# EAGLE library part SDCARD (library akita)
HIROSE microSD socket DM3AT-SF-PEJ
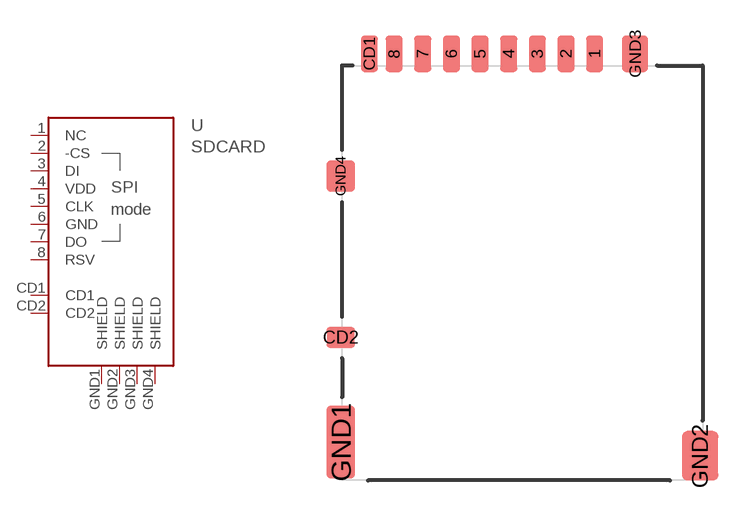
[diagram p21: symbol with the pads of SD_DM3AT-SF-PEJ; footprint SD_DM3AT-SF-PEJ]

Designator prefix U

## SDCARD  [SD_DM3AT-SF-PEJ]
1  NC
2  -CS
3  DI
4  VDD
5  CLK
6  GND
7  DO
8  RSV
CD1  CD1
CD2  CD2
GND1  SHIELD
GND2  SHIELD
GND3  SHIELD
GND4  SHIELD

## Footprint SD_DM3AT-SF-PEJ (pad centres in mm)
smd 0.65 x 1.4: 1 3.2,16.4; 2 2.1,16.4; 3 1,16.4; 4 -0.1,16.4; 5 -1.2,16.4; 6 -2.3,16.4; 7 -3.4,16.4; 8 -4.5,16.4; CD1 -5.45,16.4
smd 1.1 x 0.8: CD2 -6.55,5.5
smd 1.1 x 2.8: GND1 -6.55,1.475
smd 1.4 x 1.9: GND2 7.25,0.95
smd 1 x 1.4: GND3 4.75,16.4
smd 1.1 x 1.2: GND4 -6.55,11.7